# EAGLE library part ATMEGA32U4-44-VQFN (library Eagle_CAD_parts)
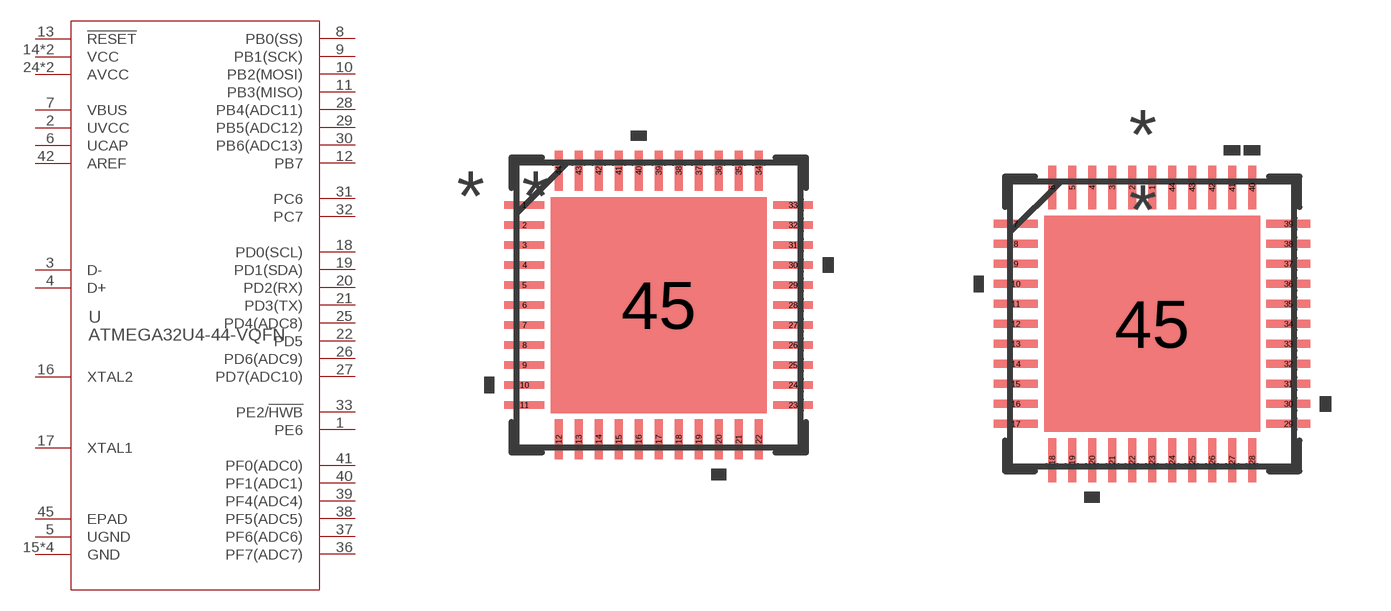
[diagram p27: symbol with the pads of 44-VQFN; footprints 44-VQFN, 44-VQFN-M]

Designator prefix U

## ATMEGA32U4-44-VQFN (DIGIKEY_PART_NUMBER: ATMEGA32U4-MURCT-ND; MANUFACTURER_PART_NUMBER: ATMEGA32U4MUR; VENDOR: Atmel)  [44-VQFN]
1  PE6
2  UVCC  pwr
3  D-  pas
4  D+  pas
5  UGND  pwr
6  UCAP  out
7  VBUS  in
8  PB0(SS)
9  PB1(SCK)
10  PB2(MOSI)
11  PB3(MISO)
12  PB7
13  !RESET  in
14  VCC  pwr
15  GND  pwr
16  XTAL2  out
17  XTAL1  in
18  PD0(SCL)
19  PD1(SDA)
20  PD2(RX)
21  PD3(TX)
22  PD5
23  GND  pwr
24  AVCC  pwr
25  PD4(ADC8)
26  PD6(ADC9)
27  PD7(ADC10)
28  PB4(ADC11)
29  PB5(ADC12)
30  PB6(ADC13)
31  PC6
32  PC7
33  PE2/!HWB
34  VCC  pwr
35  GND  pwr
36  PF7(ADC7)
37  PF6(ADC6)
38  PF5(ADC5)
39  PF4(ADC4)
40  PF1(ADC1)
41  PF0(ADC0)
42  AREF  in
43  GND  pwr
44  AVCC  pwr
45  EPAD  pas

## ATMEGA32U4-44-VQFN44PW-M (MANUFACTURER_PART_NUMBER: ATMEGA32U4MUR; VENDOR: Atmel)  [44-VQFN-M]
Pads as for 44-VQFN

## ATMEGA32U4-44-VQFN44PW-L (MANUFACTURER_PART_NUMBER: ATMEGA32U4MUR; VENDOR: Atmel)  [44-VQFN-L]
Pads as for 44-VQFN

## Footprint 44-VQFN (pad centres in mm)
smd 0.995 x 0.198: 1 -3.357,2.5; 2 -3.357,2; 3 -3.357,1.5; 4 -3.357,1; 5 -3.357,0.5; 6 -3.357,0; 7 -3.357,-0.5; 8 -3.357,-1; 9 -3.357,-1.5; 10 -3.357,-2; 11 -3.357,-2.5; 23 3.357,-2.5; 24 3.357,-2; 25 3.357,-1.5; 26 3.357,-1; 27 3.357,-0.5; 28 3.357,0; 29 3.357,0.5; 30 3.357,1; 31 3.357,1.5; 32 3.357,2; 33 3.357,2.5
smd 0.198 x 0.995: 12 -2.5,-3.357; 13 -2,-3.357; 14 -1.5,-3.357; 15 -1,-3.357; 16 -0.5,-3.357; 17 0,-3.357; 18 0.5,-3.357; 19 1,-3.357; 20 1.5,-3.357; 21 2,-3.357; 22 2.5,-3.357; 34 2.5,3.357; 35 2,3.357; 36 1.5,3.357; 37 1,3.357; 38 0.5,3.357; 39 0,3.357; 40 -0.5,3.357; 41 -1,3.357; 42 -1.5,3.357; 43 -2,3.357; 44 -2.5,3.357
smd 5.4 x 5.4: 45 0,0

## Footprint 44-VQFN-M (pad centres in mm)
smd 0.198 x 1.096: 1 0,3.408; 2 -0.5,3.408; 3 -1,3.408; 4 -1.5,3.408; 5 -2,3.408; 6 -2.5,3.408; 18 -2.5,-3.408; 19 -2,-3.408; 20 -1.5,-3.408; 21 -1,-3.408; 22 -0.5,-3.408; 23 0,-3.408; 24 0.5,-3.408; 25 1,-3.408; 26 1.5,-3.408; 27 2,-3.408; 28 2.5,-3.408; 40 2.5,3.408; 41 2,3.408; 42 1.5,3.408; 43 1,3.408; 44 0.5,3.408
smd 1.096 x 0.198: 7 -3.408,2.5; 8 -3.408,2; 9 -3.408,1.5; 10 -3.408,1; 11 -3.408,0.5; 12 -3.408,0; 13 -3.408,-0.5; 14 -3.408,-1; 15 -3.408,-1.5; 16 -3.408,-2; 17 -3.408,-2.5; 29 3.408,-2.5; 30 3.408,-2; 31 3.408,-1.5; 32 3.408,-1; 33 3.408,-0.5; 34 3.408,0; 35 3.408,0.5; 36 3.408,1; 37 3.408,1.5; 38 3.408,2; 39 3.408,2.5
smd 5.4 x 5.4: 45 0,0

## Footprint 44-VQFN-L (pad centres in mm)
smd 0.198 x 0.893: 1 0,3.307; 2 -0.5,3.307; 3 -1,3.307; 4 -1.5,3.307; 5 -2,3.307; 6 -2.5,3.307; 18 -2.5,-3.307; 19 -2,-3.307; 20 -1.5,-3.307; 21 -1,-3.307; 22 -0.5,-3.307; 23 0,-3.307; 24 0.5,-3.307; 25 1,-3.307; 26 1.5,-3.307; 27 2,-3.307; 28 2.5,-3.307; 40 2.5,3.307; 41 2,3.307; 42 1.5,3.307; 43 1,3.307; 44 0.5,3.307
smd 0.893 x 0.198: 7 -3.307,2.5; 8 -3.307,2; 9 -3.307,1.5; 10 -3.307,1; 11 -3.307,0.5; 12 -3.307,0; 13 -3.307,-0.5; 14 -3.307,-1; 15 -3.307,-1.5; 16 -3.307,-2; 17 -3.307,-2.5; 29 3.307,-2.5; 30 3.307,-2; 31 3.307,-1.5; 32 3.307,-1; 33 3.307,-0.5; 34 3.307,0; 35 3.307,0.5; 36 3.307,1; 37 3.307,1.5; 38 3.307,2; 39 3.307,2.5
smd 5.4 x 5.4: 45 0,0